# EAGLE library part INTEGRATOR_3INPUT_INIT_TWO_MODE (library analog-computer)
Integrator (two mode) with five inputs One input (top or bottom) is for setting the initial value. One input R (side) is for resetting the integrator.
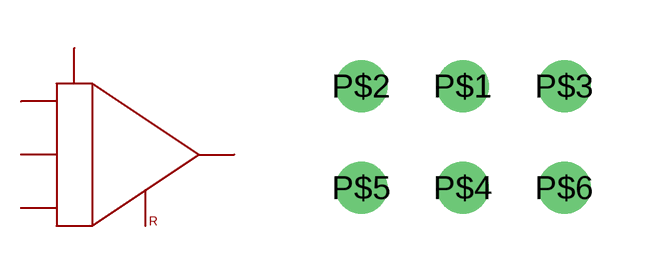
[diagram p1: symbol with the pads of SIX_IO; footprint SIX_IO]

Designator prefix -

## INTEGRATOR_3INPUT_INIT_TWO_MODE  [SIX_IO]
P$1  P$1  in
P$2  P$2  in
P$3  P$3  in
P$4  P$4  in
P$5  P$5  in
P$6  P$6  out

## Footprint SIX_IO (pad centres in mm)
drill 0.8 round: P$1 0,0; P$2 -2.54,0; P$3 2.54,0; P$4 0,-2.54; P$5 -2.54,-2.54; P$6 2.54,-2.54